# EAGLE library part TB6612 (library tb6612)
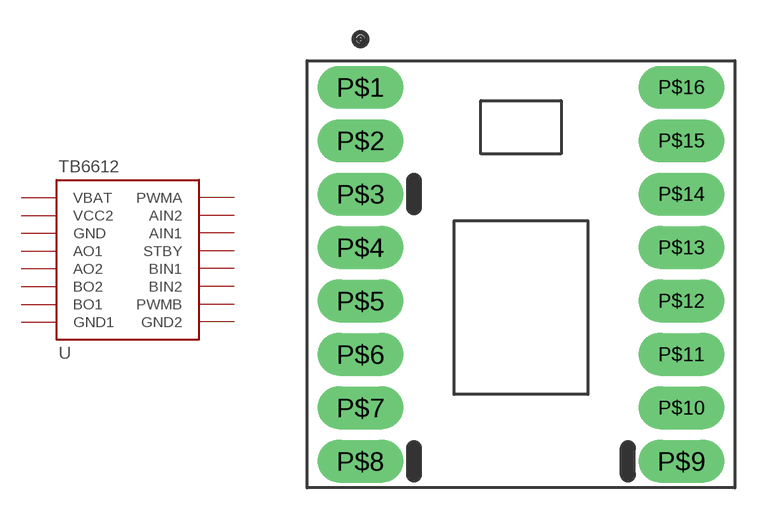
[diagram p0: symbol with the pads of TB6612; footprint TB6612]

Designator prefix -

## TB6612  [TB6612]
P$1  VBAT
P$2  VCC2
P$3  GND
P$4  AO1
P$5  AO2
P$6  BO2
P$7  BO1
P$8  GND1
P$9  GND2
P$10  PWMB
P$11  BIN2
P$12  BIN1
P$13  STBY
P$14  AIN1
P$15  AIN2
P$16  PWMA

## Footprint TB6612 (pad centres in mm)
drill 1.016 pad 2.032 long: P$1 0,0; P$2 0,-2.54; P$3 0,-5.08; P$4 0,-7.62; P$5 0,-10.16; P$6 0,-12.7; P$7 0,-15.24; P$8 0,-17.78; P$9 15.24,-17.78; P$10 15.24,-15.24; P$11 15.24,-12.7; P$12 15.24,-10.16; P$13 15.24,-7.62; P$14 15.24,-5.08; P$15 15.24,-2.54; P$16 15.24,0